# Altium schematic symbol library PinHeader8.SchLib: 1 symbol
Pins are listed as number, name and electrical type; pins without a type are passive.

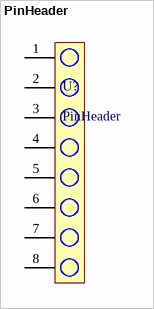
[diagram p0: symbol PinHeader]

## PinHeader
designator U?
Manufacture Part Number: TS-104-G-AA; Manufacture: *; Supplier: DigiKey; Supplier Part Number: SAM15343-ND
footprint SBGA48x11
pins: 1, 2, 3, 4, 5, 6, 7, 8